# Altium schematic symbol library SCH - CRYSTALS - NDK CRYSTAL NX5032GA.SCHLIB: 1 symbol
Pins are listed as number, name and electrical type; pins without a type are passive.

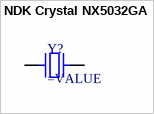
[diagram p0: symbol NDK Crystal NX5032GA]

## NDK Crystal NX5032GA
designator Y?
SMT Crystal
pins: 1, 2